# Altium footprint library BUZZER PKM13EPYH4000-A0.PcbLib: 1 footprints
Each footprint in its own frame and in the unit in brackets; x right, y up, seen from the top. Pads: shape width x height; smd on the part's side, far side on the other; paste and mask are expansions set on the pad; w line width, h text height; cw(c..) or ccw(c..) is an arc to the next point about the centre after c.
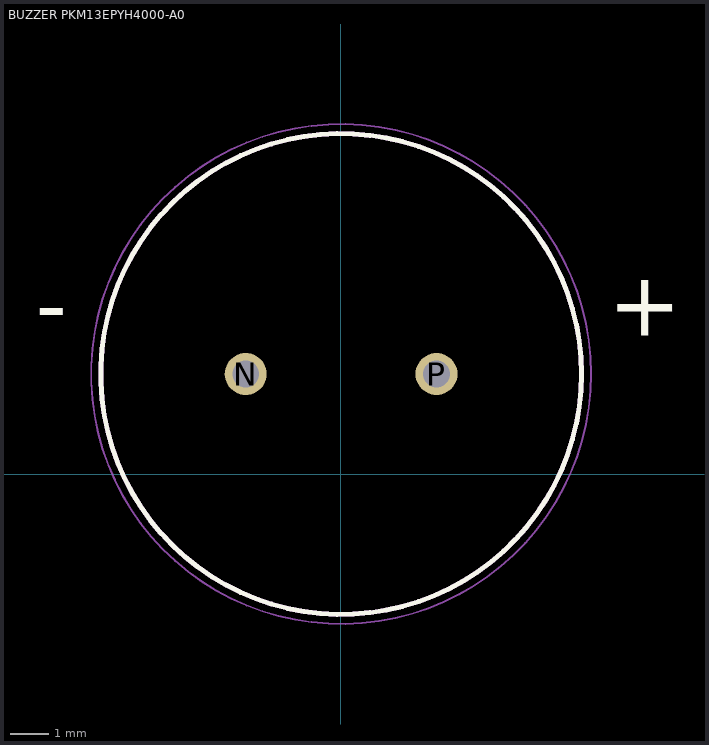
[diagram p0: the footprint, top view; thin cyan lines are the x and y axes]

## BUZZER PKM13EPYH4000-A0 [mm]
pads (2):
  round 1.1 hole 0.7: N(-2.488,2.63) P(2.512,2.63)
Top Overlay:
  circle w0.127: c0.012,2.63 r6.3
  text "+" at 7.012,3.63 h1.68
  text "-" at -7.988,3.63 h1.68
Mechanical 13:
  circle w0.127: c0.012,2.63 r6.3
  text "+" at 7.012,3.63 h1.68
  text "-" at -7.988,3.63 h1.68
Mechanical 15:
  circle w0.05: c0.012,2.63 r6.55